# Altium footprint library DIOM5025X220N.PcbLib: 1 footprints
Each footprint in its own frame and in the unit in brackets; x right, y up, seen from the top. Pads: shape width x height; smd on the part's side, far side on the other; paste and mask are expansions set on the pad; w line width, h text height; cw(c..) or ccw(c..) is an arc to the next point about the centre after c.
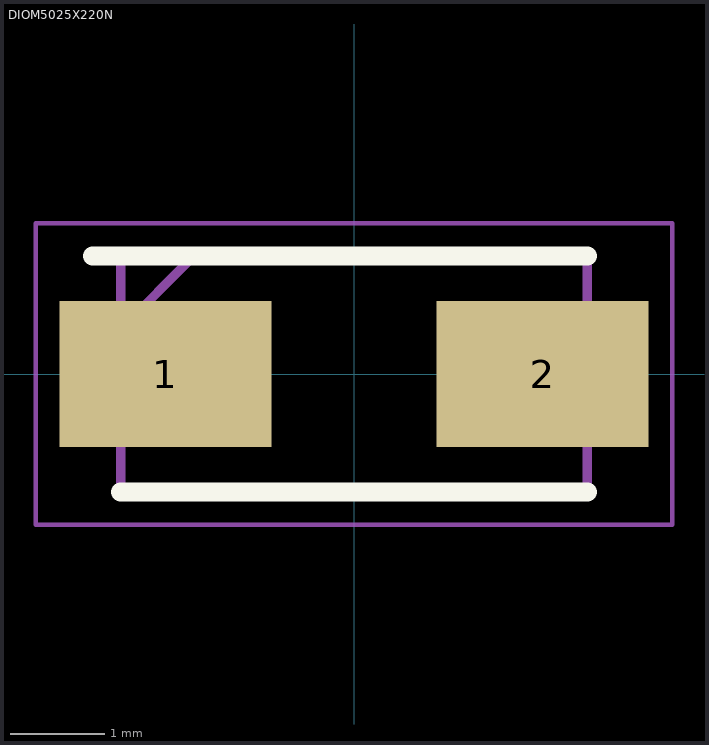
[diagram p0: the footprint, top view; thin cyan lines are the x and y axes]

## DIOM5025X220N [mm]
pads (2):
  rect 2.25x1.55 smd: 1(-2,0) 2(2,0)
Top Overlay:
  lines w0.2: -2.775,1.25 2.475,1.25 ; -2.475,-1.25 2.475,-1.25
Mechanical 15:
  lines w0.1: -2.475,0.475 -1.7,1.25 ; -2.475,-1.25 2.475,-1.25 2.475,1.25 -2.475,1.25 -2.475,-1.25
Mechanical 20:
  lines w0.05: -3.375,-1.6 3.375,-1.6 3.375,1.6 -3.375,1.6 -3.375,-1.6